# EAGLE library part TCM8230 (library ezlib)
The TCM8230MD(A) is a camera module which includes area color image sensor embedded with camera signal processor that meets with VGA format. In the sensor area 492 vertical and 660 horizontal signal pixels, and the image size meets with 1/6 inch optical Format. Use of the CMOS process enables low power consumption operations. It also provides excellent color reproduction through its primary color filter, and embedded camera signal processor enables small and simple camera system. And this module can be assembled by the socket which is suitable for the reflow soldering. So it is fit to use as an image input device for digital still cameras, PC cameras and mobile devices.
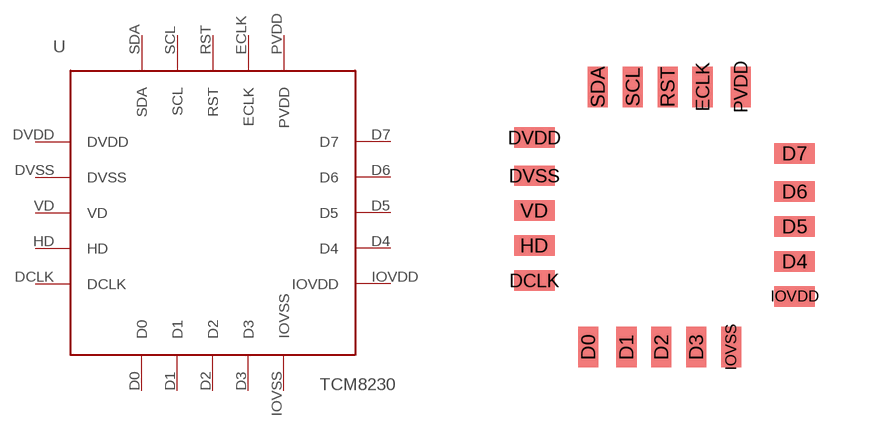
[diagram p1: symbol with the pads of TCM8230MD; footprint TCM8230MD]

Designator prefix -

## TCM8230MD  [TCM8230MD]
D0  D0
D1  D1
D2  D2
D3  D3
D4  D4
D5  D5
D6  D6
D7  D7
DCLK  DCLK
DVDD  DVDD  sup
DVSS  DVSS  sup
ECLK  ECLK
HD  HD
IOVDD  IOVDD  sup
IOVSS  IOVSS  sup
PVDD  PVDD  sup
RST  RST
SCL  SCL
SDA  SDA
VD  VD

## Footprint TCM8230MD (pad centres in mm)
smd 0.508 x 1.016: D0 -1.984,-3.254; D1 -1.032,-3.254; D2 -0.159,-3.254; D3 0.714,-3.254; ECLK 0.873,3.254; IOVSS 1.587,-3.254; PVDD 1.826,3.254; RST 0,3.254; SCL -0.873,3.254; SDA -1.746,3.254
smd 1.016 x 0.508: D4 3.175,-1.111; D5 3.175,-0.238; D6 3.175,0.635; D7 3.175,1.587; DCLK -3.334,-1.587; DVDD -3.334,1.984; DVSS -3.334,1.032; HD -3.334,-0.714; IOVDD 3.175,-1.984; VD -3.334,0.159